# Altium schematic symbol library Schlib1.SchLib: 13 symbols
Pins are listed as number, name and electrical type; pins without a type are passive.

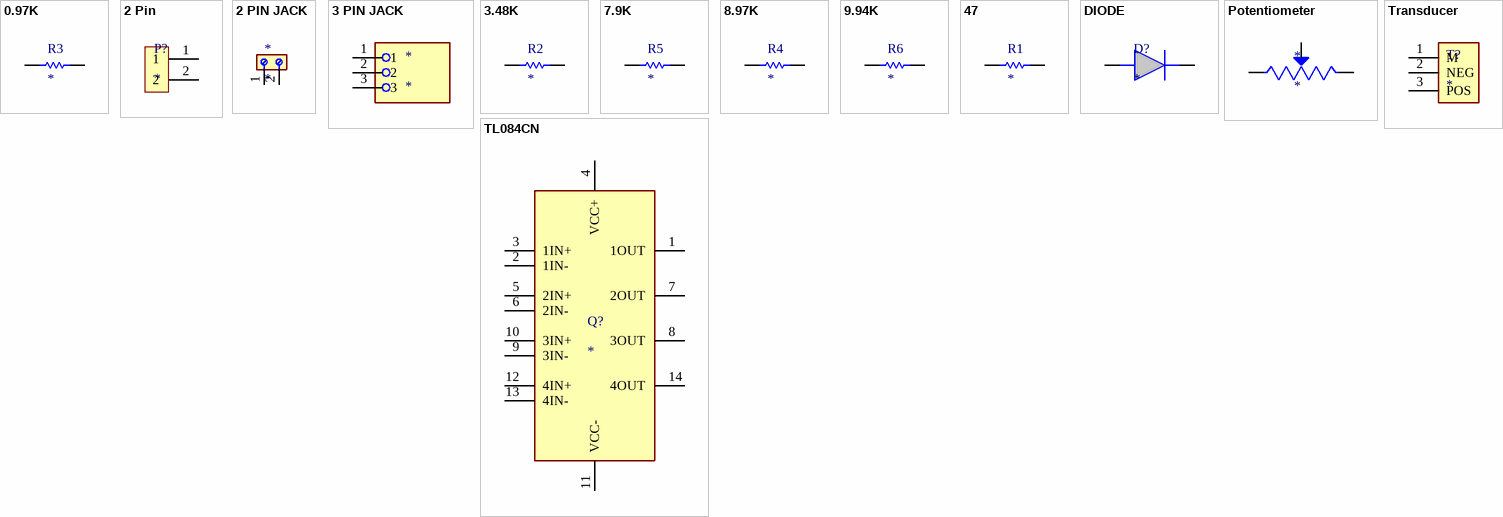
[diagram p0: symbols 0.97K to Transducer]

## 0.97K
designator R3
MFR-25FRF52-976R
footprint 0.97K
pins: 1, 2

## 2 Pin
designator P?
22272021
footprint 2 PIN
pins: 1, 2

## 2 PIN JACK
designator *
footprint 2 PIN JACK
pins: 1, 2

## 3 PIN JACK
designator *
footprint 3 PIN JACK
pins: 1, 2, 3

## 3.48K
designator R2
MFR-25FBF52-3K48
footprint 3.48K
pins: 1, 2

## 7.9K
designator R5
MFR-25FBF52-7K87
footprint 7.90K
pins: 1, 2

## 8.97K
designator R4
MFR-25FBF52-8K87
footprint 8.97K
pins: 1, 2

## 9.94K
designator R6
MFR-25FTE52-9K76
footprint 9.94K
pins: 1, 2

## 47
designator R1
MFR-25FRF52-47R
footprint 47
pins: 1, 2

## DIODE
designator D?
1N4007S
footprint Diode
pins: 1 K, 2 A

## Potentiometer
designator *
footprint Potentiometer
pins: 1 CCW, 2 WIPER, 3 CW

## TL084CN
designator Q?
TL084CN
footprint TL084CN
pins: 1 1OUT, 2 1IN-, 3 1IN+, 4 VCC+ (power), 5 2IN+, 6 2IN-, 7 2OUT, 8 3OUT, 9 3IN-, 10 3IN+, 11 VCC- (power), 12 4IN+, 13 4IN-, 14 4OUT

## Transducer
designator T?
LA55-P
footprint Transducer
pins: 1 M (power), 2 NEG (power), 3 POS (power)